# Altium schematic symbol library Isolator.SchLib: 331 symbols (part 2 of 3)
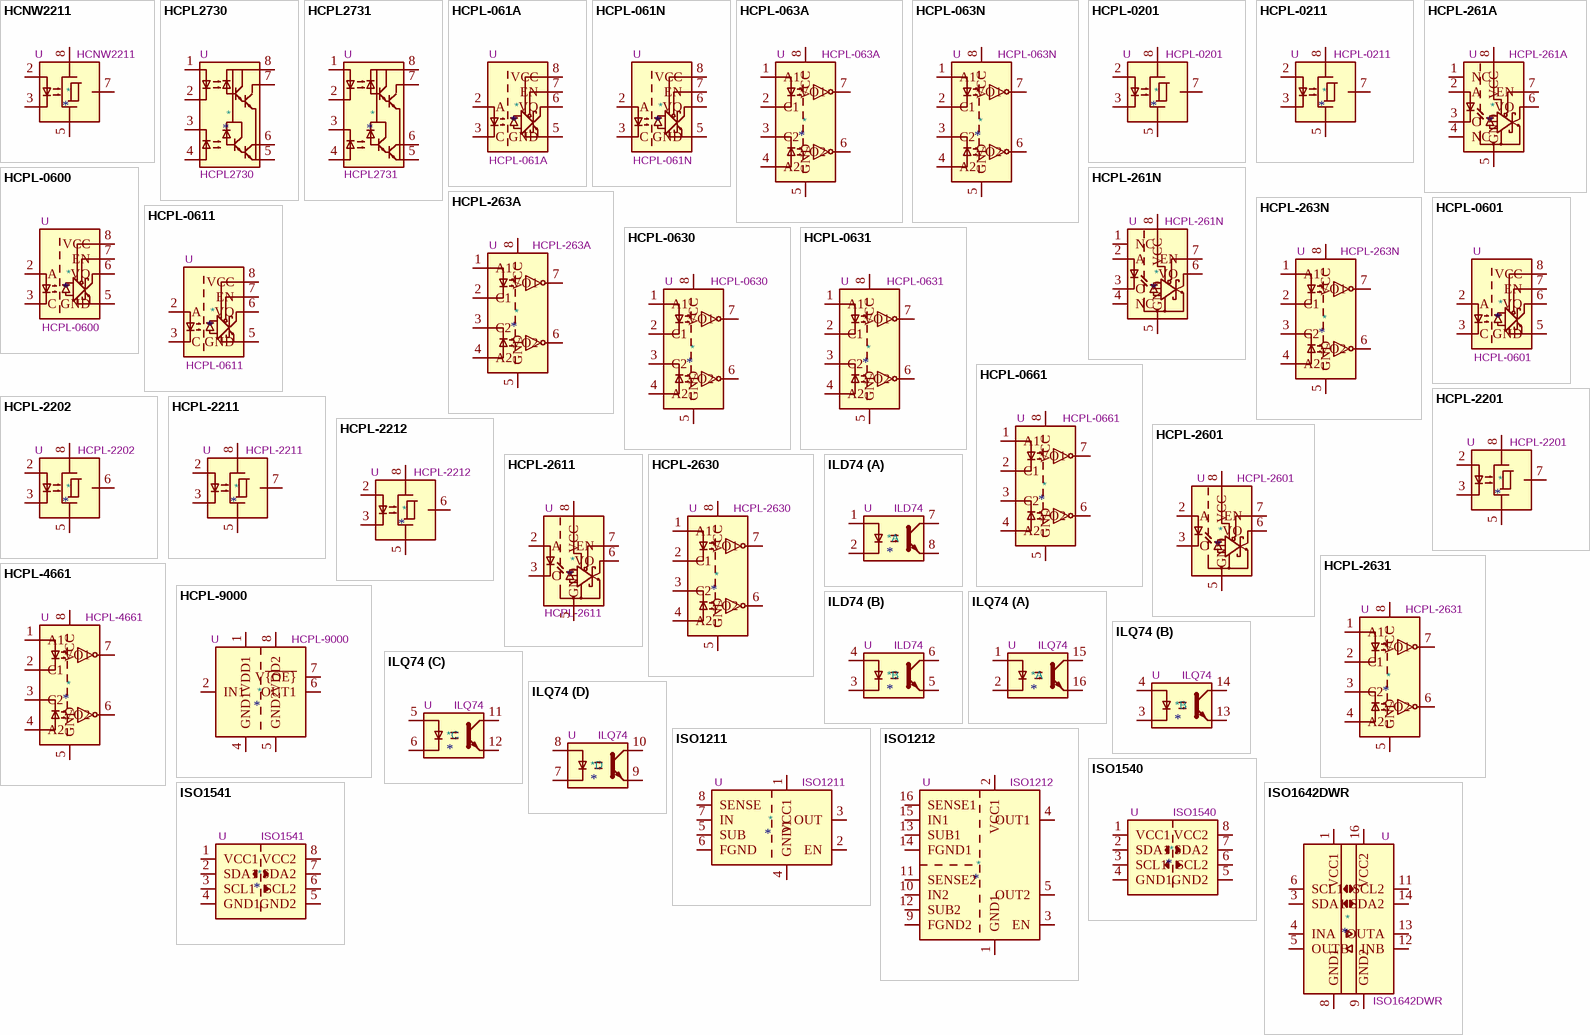
[diagram p10: symbols HCNW2211 to ISO1642DWR]

## ISO1540
designator *  value ISO1540  Reference: U
ki_keywords: digital isolator i2c; ki_description: I2C Isolator, 2.5 kVrms, Bidirectional clock and data, SOIC-8; ki_fp_filters: SOIC*3.9x4.9mm*P1.27mm*; Footprint: Package_SO:SOIC-8_3.9x4.9mm_P1.27mm; Datasheet: http://www.ti.com/lit/ds/symlink/iso1541.pdf
pins: 1 VCC1, 2 SDA1, 3 SCL1, 4 GND1, 5 GND2, 6 SCL2, 7 SDA2, 8 VCC2

## ISO1541
designator *  value ISO1541  Reference: U
ki_keywords: digital isolator i2c; ki_description: I2C Isolator, 2.5 kVrms, Unidirectional Clock, Bidirectional data, SOIC-8; ki_fp_filters: SOIC*3.9x4.9mm*P1.27mm*; Footprint: Package_SO:SOIC-8_3.9x4.9mm_P1.27mm; Datasheet: http://www.ti.com/lit/ds/symlink/iso1541.pdf
pins: 1 VCC1, 2 SDA1, 3 SCL1, 4 GND1, 5 GND2, 6 SCL2, 7 SDA2, 8 VCC2

## ISO1642DWR
designator *  value ISO1642DWR  Reference: U
ki_keywords: i2c isolator additional gpio; ki_description: I2C Isolator with Bidirectional Clock and Data and two 1/1 Auxiliary GPIOs, SOIC-16; ki_fp_filters: SOIC*7.5x10.3mm*P1.27mm*; Footprint: Package_SO:SOIC-16W_7.5x10.3mm_P1.27mm; Datasheet: https://www.ti.com/lit/ds/symlink/iso1642.pdf
pins: 1 VCC1, 2 NC hidden, 3 SDA1, 4 INA, 5 OUTB, 6 SCL1, 7 NC hidden, 8 GND1, 9 GND2, 10 NC hidden, 11 SCL2, 12 INB, 13 OUTA, 14 SDA2, 15 NC hidden, 16 VCC2

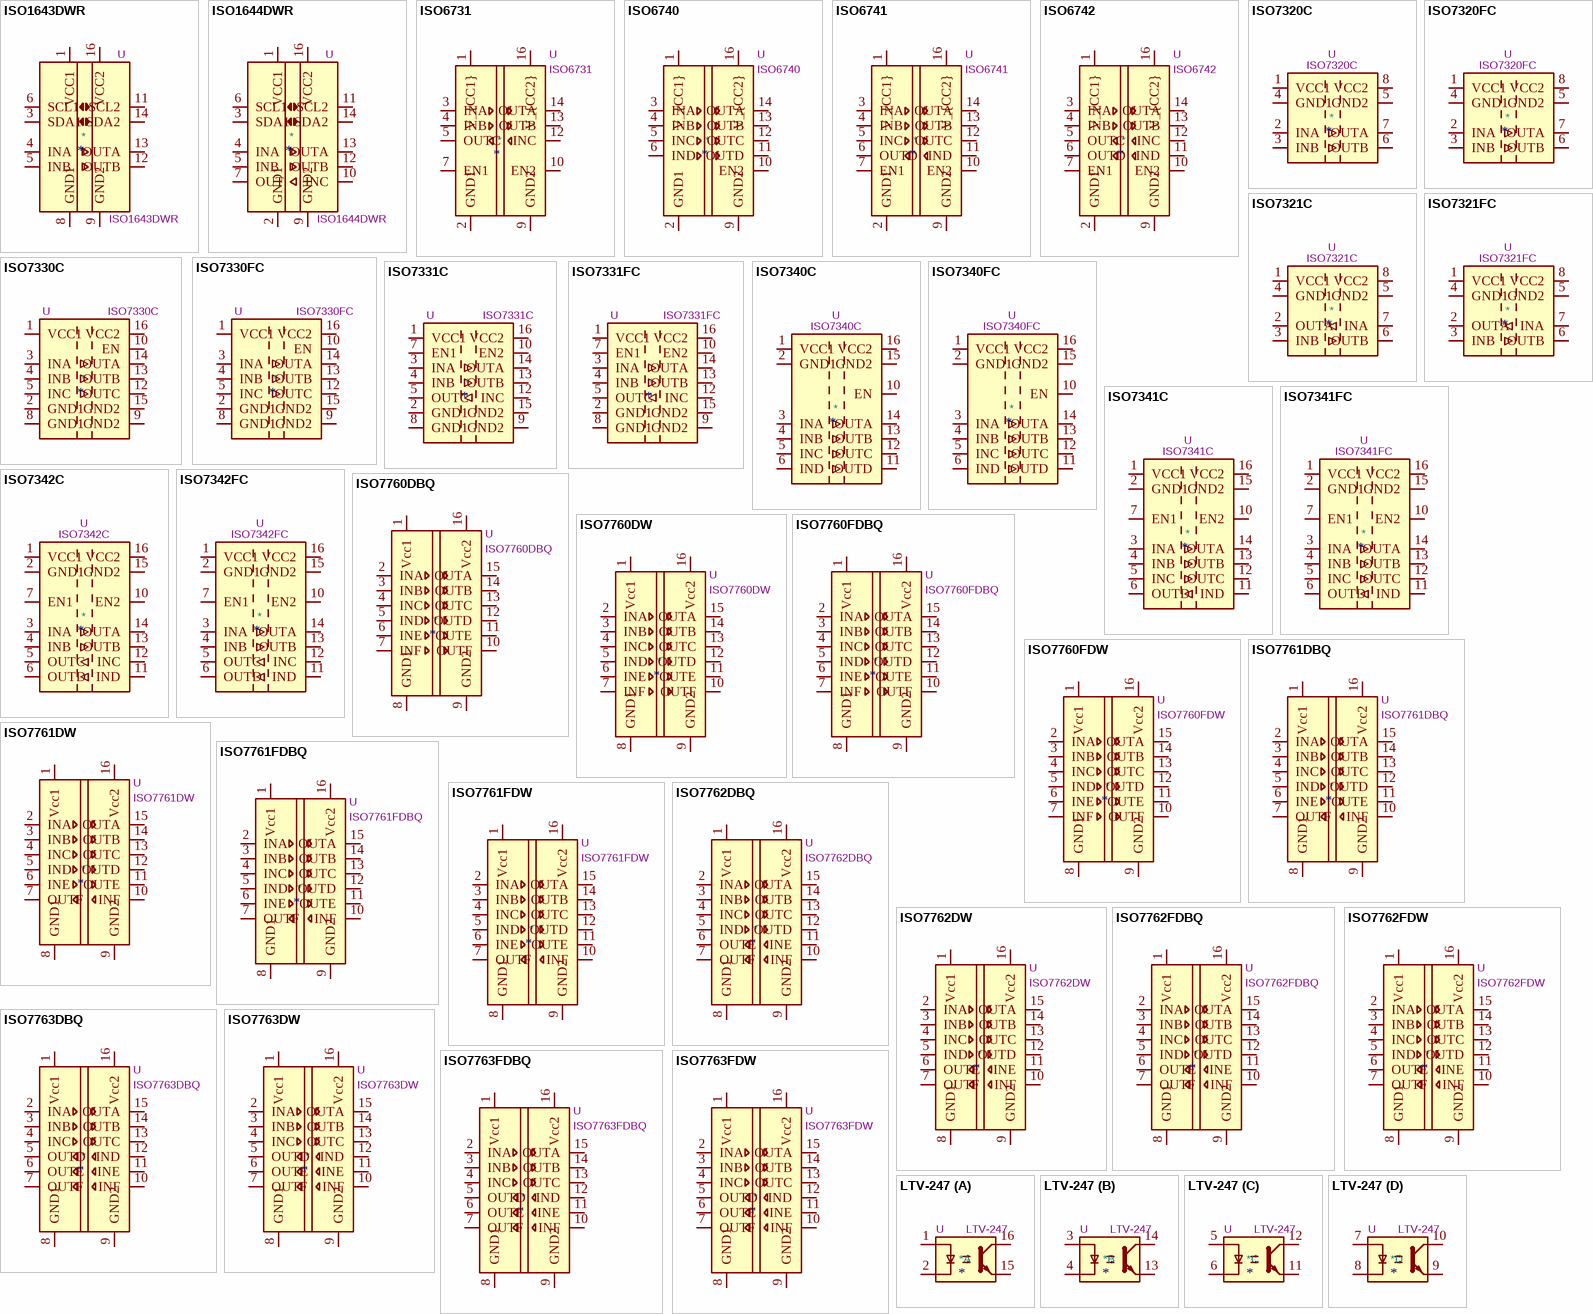
[diagram p3: symbols ISO1643DWR to LTV-247]

## ISO1643DWR
designator *  value ISO1643DWR  Reference: U
ki_keywords: i2c isolator additional gpio; ki_description: I2C Isolator with Bidirectional Clock and Data and two 2/0 Auxiliary GPIOs, SOIC-16; ki_fp_filters: SOIC*7.5x10.3mm*P1.27mm*; Footprint: Package_SO:SOIC-16W_7.5x10.3mm_P1.27mm; Datasheet: https://www.ti.com/lit/ds/symlink/iso1643.pdf
pins: 1 VCC1, 2 NC hidden, 3 SDA1, 4 INA, 5 INB, 6 SCL1, 7 NC hidden, 8 GND1, 9 GND2, 10 NC hidden, 11 SCL2, 12 OUTB, 13 OUTA, 14 SDA2, 15 NC hidden, 16 VCC2

## ISO1644DWR
designator *  value ISO1644DWR  Reference: U
ki_keywords: i2c isolator additional gpio; ki_description: I2C Isolator with Bidirectional Clock and Data and three 2/1 Auxiliary GPIOs, SOIC-16; ki_fp_filters: SOIC*7.5x10.3mm*P1.27mm*; Footprint: Package_SO:SOIC-16W_7.5x10.3mm_P1.27mm; Datasheet: https://www.ti.com/lit/ds/symlink/iso1644.pdf
pins: 1 VCC1, 2 GND1, 3 SDA1, 4 INA, 5 INB, 6 SCL1, 7 OUT, 8 GND1 hidden, 9 GND2, 10 INC, 11 SCL2, 12 OUTB, 13 OUTA, 14 SDA2, 15 GND2 hidden, 16 VCC2

## ISO6731
designator *  value ISO6731  Reference: U
ki_keywords: 3 channel digital isolator; ki_description: General-purpose, triple-channel, 2/1, digital isolator; ki_fp_filters: SOIC*7.5x10.3mm*P1.27mm*; Footprint: Package_SO:SOIC-16W_7.5x10.3mm_P1.27mm; Datasheet: https://www.ti.com/lit/ds/symlink/iso6731.pdf
pins: 1 V_{CC1}, 2 GND1, 3 INA, 4 INB, 5 OUTC, 6 NC hidden, 7 EN1, 8 GND1 hidden, 9 GND2, 10 EN2, 11 NC hidden, 12 INC, 13 OUTB, 14 OUTA, 15 GND2 hidden, 16 V_{CC2}

## ISO6740
designator *  value ISO6740  Reference: U
ki_keywords: 4 channel digital isolator; ki_description: General-purpose, quad-channel, 4/0 digital isolator; ki_fp_filters: SOIC*7.5x10.3mm*P1.27mm*; Footprint: Package_SO:SOIC-16W_7.5x10.3mm_P1.27mm; Datasheet: https://www.ti.com/lit/ds/symlink/iso6740.pdf
pins: 1 V_{CC1}, 2 GND1, 3 INA, 4 INB, 5 INC, 6 IND, 7 NC hidden, 8 GND1 hidden, 9 GND2, 10 EN2, 11 OUTD, 12 OUTC, 13 OUTB, 14 OUTA, 15 GND2 hidden, 16 V_{CC2}

## ISO6741
designator *  value ISO6741  Reference: U
ki_keywords: 4 channel digital isolator; ki_description: General-purpose, quad-channel, 3/1 digital isolator; ki_fp_filters: SOIC*7.5x10.3mm*P1.27mm*; Footprint: Package_SO:SOIC-16W_7.5x10.3mm_P1.27mm; Datasheet: https://www.ti.com/lit/ds/symlink/iso6741.pdf
pins: 1 V_{CC1}, 2 GND1, 3 INA, 4 INB, 5 INC, 6 OUTD, 7 EN1, 8 GND1 hidden, 9 GND2, 10 EN2, 11 IND, 12 OUTC, 13 OUTB, 14 OUTA, 15 GND2 hidden, 16 V_{CC2}

## ISO6742
designator *  value ISO6742  Reference: U
ki_keywords: 4 channel digital isolator; ki_description: General-purpose, quad-channel, 2/2 digital isolator; ki_fp_filters: SOIC*7.5x10.3mm*P1.27mm*; Footprint: Package_SO:SOIC-16W_7.5x10.3mm_P1.27mm; Datasheet: https://www.ti.com/lit/ds/symlink/iso6742.pdf
pins: 1 V_{CC1}, 2 GND1, 3 INA, 4 INB, 5 OUTC, 6 OUTD, 7 EN1, 8 GND1 hidden, 9 GND2, 10 EN2, 11 IND, 12 INC, 13 OUTB, 14 OUTA, 15 GND2 hidden, 16 V_{CC2}

## ISO7320C
designator *  value ISO7320C  Reference: U
ki_keywords: 2Ch Dual Digital Isolator 25Mbps; ki_description: Low Power Dual-Channel 2/0 Digital Isolator, 25Mbps 33ns, Fail-Safe High, SO8; ki_fp_filters: SO*; Footprint: Package_SO:SOIC-8_3.9x4.9mm_P1.27mm; Datasheet: http://www.ti.com/general/docs/lit/getliterature.tsp?genericPartNumber=iso7320c&fileType=pdf
pins: 1 VCC1, 2 INA, 3 INB, 4 GND1, 5 GND2, 6 OUTB, 7 OUTA, 8 VCC2

## ISO7320FC
designator *  value ISO7320FC  Reference: U
ki_keywords: 2Ch Dual Digital Isolator 25Mbps; ki_description: Low Power Dual-Channel 2/0 Digital Isolator, 25Mbps 33ns, Fail-Safe Low, SO8; ki_fp_filters: SO*; Footprint: Package_SO:SOIC-8_3.9x4.9mm_P1.27mm; Datasheet: http://www.ti.com/general/docs/lit/getliterature.tsp?genericPartNumber=iso7320fc&fileType=pdf
pins: 1 VCC1, 2 INA, 3 INB, 4 GND1, 5 GND2, 6 OUTB, 7 OUTA, 8 VCC2

## ISO7321C
designator *  value ISO7321C  Reference: U
ki_keywords: 2Ch Dual Digital Isolator 25Mbps; ki_description: Low Power Dual-Channel 1/1 Digital Isolator, 25Mbps 33ns, Fail-Safe High, SO8; ki_fp_filters: SO*; Footprint: Package_SO:SOIC-8_3.9x4.9mm_P1.27mm; Datasheet: http://www.ti.com/general/docs/lit/getliterature.tsp?genericPartNumber=iso7321c&fileType=pdf
pins: 1 VCC1, 2 OUTA, 3 INB, 4 GND1, 5 GND2, 6 OUTB, 7 INA, 8 VCC2

## ISO7321FC
designator *  value ISO7321FC  Reference: U
ki_keywords: 2Ch Dual Digital Isolator 25Mbps; ki_description: Low Power Dual-Channel 1/1 Digital Isolator, 25Mbps 33ns, Fail-Safe Low, SO8; ki_fp_filters: SO*; Footprint: Package_SO:SOIC-8_3.9x4.9mm_P1.27mm; Datasheet: http://www.ti.com/general/docs/lit/getliterature.tsp?genericPartNumber=iso7321fc&fileType=pdf
pins: 1 VCC1, 2 OUTA, 3 INB, 4 GND1, 5 GND2, 6 OUTB, 7 INA, 8 VCC2

## ISO7330C
designator *  value ISO7330C  Reference: U
ki_keywords: 3Ch Quad Digital Isolator 25Mbps; ki_description: Low Power Quad-Channel 3/0 Digital Isolator, 25Mbps 31ns, Fail-Safe High, SO16; ki_fp_filters: SOIC*7.5x10.3mm*P1.27mm*; Footprint: Package_SO:SOIC-16W_7.5x10.3mm_P1.27mm; Datasheet: http://www.ti.com/lit/ds/symlink/iso7330-q1.pdf
pins: 1 VCC1, 2 GND1, 3 INA, 4 INB, 5 INC, 6 NC hidden, 7 NC hidden, 8 GND1, 9 GND2, 10 EN, 11 NC hidden, 12 OUTC, 13 OUTB, 14 OUTA, 15 GND2, 16 VCC2

## ISO7330FC
designator *  value ISO7330FC  Reference: U
ki_keywords: 3Ch Quad Digital Isolator 25Mbps; ki_description: Low Power Quad-Channel 3/0 Digital Isolator, 25Mbps 31ns, Fail-Safe Low, SO16; ki_fp_filters: SOIC*7.5x10.3mm*P1.27mm*; Footprint: Package_SO:SOIC-16W_7.5x10.3mm_P1.27mm; Datasheet: http://www.ti.com/lit/ds/symlink/iso7330-q1.pdf
pins: 1 VCC1, 2 GND1, 3 INA, 4 INB, 5 INC, 6 NC hidden, 7 NC hidden, 8 GND1, 9 GND2, 10 EN, 11 NC hidden, 12 OUTC, 13 OUTB, 14 OUTA, 15 GND2, 16 VCC2

## ISO7331C
designator *  value ISO7331C  Reference: U
ki_keywords: 3Ch Quad Digital Isolator 25Mbps; ki_description: Low Power Quad-Channel 2/1 Digital Isolator, 25Mbps 31ns, Fail-Safe High, SO16; ki_fp_filters: SOIC*7.5x10.3mm*P1.27mm*; Footprint: Package_SO:SOIC-16W_7.5x10.3mm_P1.27mm; Datasheet: http://www.ti.com/lit/ds/symlink/iso7331c.pdf
pins: 1 VCC1, 2 GND1, 3 INA, 4 INB, 5 OUTC, 6 NC hidden, 7 EN1, 8 GND1, 9 GND2, 10 EN2, 11 NC hidden, 12 INC, 13 OUTB, 14 OUTA, 15 GND2, 16 VCC2

## ISO7331FC
designator *  value ISO7331FC  Reference: U
ki_keywords: 3Ch Quad Digital Isolator 25Mbps; ki_description: Low Power Quad-Channel 2/1 Digital Isolator, 25Mbps 31ns, Fail-Safe Low, SO16; ki_fp_filters: SOIC*7.5x10.3mm*P1.27mm*; Footprint: Package_SO:SOIC-16W_7.5x10.3mm_P1.27mm; Datasheet: http://www.ti.com/general/docs/lit/getliterature.tsp?genericPartNumber=iso7341c&fileType=pdf
pins: 1 VCC1, 2 GND1, 3 INA, 4 INB, 5 OUTC, 6 NC hidden, 7 EN1, 8 GND1, 9 GND2, 10 EN2, 11 NC hidden, 12 INC, 13 OUTB, 14 OUTA, 15 GND2, 16 VCC2

## ISO7340C
designator *  value ISO7340C  Reference: U
ki_keywords: 4Ch Quad Digital Isolator 25Mbps; ki_description: Low Power Quad-Channel 4/0 Digital Isolator, 25Mbps 31ns, Fail-Safe High, SO16; ki_fp_filters: SO*; Footprint: Package_SO:SOIC-16W_7.5x10.3mm_P1.27mm; Datasheet: http://www.ti.com/general/docs/lit/getliterature.tsp?genericPartNumber=iso7340c&fileType=pdf
pins: 1 VCC1, 2 GND1, 3 INA, 4 INB, 5 INC, 6 IND, 8 GND1 hidden, 9 GND2 hidden, 10 EN, 11 OUTD, 12 OUTC, 13 OUTB, 14 OUTA, 15 GND2, 16 VCC2

## ISO7340FC
designator *  value ISO7340FC  Reference: U
ki_keywords: 4Ch Quad Digital Isolator 25Mbps; ki_description: Low Power Quad-Channel 4/0 Digital Isolator, 25Mbps 31ns, Fail-Safe Low, SO16; ki_fp_filters: SO*; Footprint: Package_SO:SOIC-16W_7.5x10.3mm_P1.27mm; Datasheet: http://www.ti.com/general/docs/lit/getliterature.tsp?genericPartNumber=iso7340fc&fileType=pdf
pins: 1 VCC1, 2 GND1, 3 INA, 4 INB, 5 INC, 6 IND, 8 GND1 hidden, 9 GND2 hidden, 10 EN, 11 OUTD, 12 OUTC, 13 OUTB, 14 OUTA, 15 GND2, 16 VCC2

## ISO7341C
designator *  value ISO7341C  Reference: U
ki_keywords: 4Ch Quad Digital Isolator 25Mbps; ki_description: Low Power Quad-Channel 3/1 Digital Isolator, 25Mbps 31ns, Fail-Safe High, SO16; ki_fp_filters: SO*; Footprint: Package_SO:SOIC-16W_7.5x10.3mm_P1.27mm; Datasheet: http://www.ti.com/general/docs/lit/getliterature.tsp?genericPartNumber=iso7341c&fileType=pdf
pins: 1 VCC1, 2 GND1, 3 INA, 4 INB, 5 INC, 6 OUTD, 7 EN1, 8 GND1 hidden, 9 GND2 hidden, 10 EN2, 11 IND, 12 OUTC, 13 OUTB, 14 OUTA, 15 GND2, 16 VCC2

## ISO7341FC
designator *  value ISO7341FC  Reference: U
ki_keywords: 4Ch Quad Digital Isolator 25Mbps; ki_description: Low Power Quad-Channel 3/1 Digital Isolator, 25Mbps 31ns, Fail-Safe Low, SO16; ki_fp_filters: SO*; Footprint: Package_SO:SOIC-16W_7.5x10.3mm_P1.27mm; Datasheet: http://www.ti.com/general/docs/lit/getliterature.tsp?genericPartNumber=iso7341fc&fileType=pdf
pins: 1 VCC1, 2 GND1, 3 INA, 4 INB, 5 INC, 6 OUTD, 7 EN1, 8 GND1 hidden, 9 GND2 hidden, 10 EN2, 11 IND, 12 OUTC, 13 OUTB, 14 OUTA, 15 GND2, 16 VCC2

## ISO7342C
designator *  value ISO7342C  Reference: U
ki_keywords: 4Ch Quad Digital Isolator 25Mbps; ki_description: Low Power Quad-Channel 2/2 Digital Isolator, 25Mbps 31ns, Fail-Safe High, SO16; ki_fp_filters: SO*; Footprint: Package_SO:SOIC-16W_7.5x10.3mm_P1.27mm; Datasheet: http://www.ti.com/general/docs/lit/getliterature.tsp?genericPartNumber=iso7342c&fileType=pdf
pins: 1 VCC1, 2 GND1, 3 INA, 4 INB, 5 OUTC, 6 OUTD, 7 EN1, 8 GND1 hidden, 9 GND2 hidden, 10 EN2, 11 IND, 12 INC, 13 OUTB, 14 OUTA, 15 GND2, 16 VCC2

## ISO7342FC
designator *  value ISO7342FC  Reference: U
ki_keywords: 4Ch Quad Digital Isolator 25Mbps; ki_description: Low Power Quad-Channel 2/2 Digital Isolator, 25Mbps 31ns, Fail-Safe Low, SO16; ki_fp_filters: SO*; Footprint: Package_SO:SOIC-16W_7.5x10.3mm_P1.27mm; Datasheet: http://www.ti.com/general/docs/lit/getliterature.tsp?genericPartNumber=iso7342fc&fileType=pdf
pins: 1 VCC1, 2 GND1, 3 INA, 4 INB, 5 OUTC, 6 OUTD, 7 EN1, 8 GND1 hidden, 9 GND2 hidden, 10 EN2, 11 IND, 12 INC, 13 OUTB, 14 OUTA, 15 GND2, 16 VCC2

## ISO7760DBQ
designator *  value ISO7760DBQ  Reference: U
ki_keywords: 6 channel digital isolator; ki_description: Default high, High-speed, robust EMC, reinforced, six-channel, digital, isolator, SSOP-16; ki_fp_filters: SSOP*3.9x4.9mm*P0.635mm*; Footprint: Package_SO:SSOP-16_3.9x4.9mm_P0.635mm; Datasheet: https://www.ti.com/lit/ds/symlink/iso7763.pdf
pins: 1 Vcc1, 2 INA, 3 INB, 4 INC, 5 IND, 6 INE, 7 INF, 8 GND1, 9 GND2, 10 OUTF, 11 OUTE, 12 OUTD, 13 OUTC, 14 OUTB, 15 OUTA, 16 Vcc2

## ISO7760DW
designator *  value ISO7760DW  Reference: U
ki_keywords: 6 channel digital isolator; ki_description: Default high, High-speed, robust EMC, reinforced, six-channel, digital, isolator, SOIC-16; ki_fp_filters: SOIC*7.5x10.3mm*P1.27mm*; Footprint: Package_SO:SOIC-16W_7.5x10.3mm_P1.27mm; Datasheet: https://www.ti.com/lit/ds/symlink/iso7763.pdf
pins: 1 Vcc1, 2 INA, 3 INB, 4 INC, 5 IND, 6 INE, 7 INF, 8 GND1, 9 GND2, 10 OUTF, 11 OUTE, 12 OUTD, 13 OUTC, 14 OUTB, 15 OUTA, 16 Vcc2

## ISO7760FDBQ
designator *  value ISO7760FDBQ  Reference: U
ki_keywords: 6 channel digital isolator; ki_description: Default low, High-speed, robust EMC, reinforced, six-channel, digital, isolator, SSOP-16; ki_fp_filters: SSOP*3.9x4.9mm*P0.635mm*; Footprint: Package_SO:SSOP-16_3.9x4.9mm_P0.635mm; Datasheet: https://www.ti.com/lit/ds/symlink/iso7763.pdf?ts=1596905577895
pins: 1 Vcc1, 2 INA, 3 INB, 4 INC, 5 IND, 6 INE, 7 INF, 8 GND1, 9 GND2, 10 OUTF, 11 OUTE, 12 OUTD, 13 OUTC, 14 OUTB, 15 OUTA, 16 Vcc2

## ISO7760FDW
designator *  value ISO7760FDW  Reference: U
ki_keywords: 6 channel digital isolator; ki_description: Default low, High-speed, robust EMC, reinforced, six-channel, digital, isolator, SOIC-16; ki_fp_filters: SOIC*7.5x10.3mm*P1.27mm*; Footprint: Package_SO:SOIC-16W_7.5x10.3mm_P1.27mm; Datasheet: https://www.ti.com/lit/ds/symlink/iso7763.pdf?ts=1596905577895
pins: 1 Vcc1, 2 INA, 3 INB, 4 INC, 5 IND, 6 INE, 7 INF, 8 GND1, 9 GND2, 10 OUTF, 11 OUTE, 12 OUTD, 13 OUTC, 14 OUTB, 15 OUTA, 16 Vcc2

## ISO7761DBQ
designator *  value ISO7761DBQ  Reference: U
ki_keywords: 6 channel digital isolator; ki_description: Default high, High-speed, robust EMC, reinforced, six-channel, digital, isolator, SSOP-16; ki_fp_filters: SSOP*3.9x4.9mm*P0.635mm*; Footprint: Package_SO:SSOP-16_3.9x4.9mm_P0.635mm; Datasheet: https://www.ti.com/lit/ds/symlink/iso7763.pdf
pins: 1 Vcc1, 2 INA, 3 INB, 4 INC, 5 IND, 6 INE, 7 OUTF, 8 GND1, 9 GND2, 10 INF, 11 OUTE, 12 OUTD, 13 OUTC, 14 OUTB, 15 OUTA, 16 Vcc2

## ISO7761DW
designator *  value ISO7761DW  Reference: U
ki_keywords: 6 channel digital isolator; ki_description: Default high, High-speed, robust EMC, reinforced, six-channel, digital, isolator, SOIC-16; ki_fp_filters: SOIC*7.5x10.3mm*P1.27mm*; Footprint: Package_SO:SOIC-16W_7.5x10.3mm_P1.27mm; Datasheet: https://www.ti.com/lit/ds/symlink/iso7763.pdf
pins: 1 Vcc1, 2 INA, 3 INB, 4 INC, 5 IND, 6 INE, 7 OUTF, 8 GND1, 9 GND2, 10 INF, 11 OUTE, 12 OUTD, 13 OUTC, 14 OUTB, 15 OUTA, 16 Vcc2

## ISO7761FDBQ
designator *  value ISO7761FDBQ  Reference: U
ki_keywords: 6 channel digital isolator; ki_description: Default low, High-speed, robust EMC, reinforced, six-channel, digital, isolator, SSOP-16; ki_fp_filters: SSOP*3.9x4.9mm*P0.635mm*; Footprint: Package_SO:SSOP-16_3.9x4.9mm_P0.635mm; Datasheet: https://www.ti.com/lit/ds/symlink/iso7763.pdf?ts=1596905577895
pins: 1 Vcc1, 2 INA, 3 INB, 4 INC, 5 IND, 6 INE, 7 OUTF, 8 GND1, 9 GND2, 10 INF, 11 OUTE, 12 OUTD, 13 OUTC, 14 OUTB, 15 OUTA, 16 Vcc2

## ISO7761FDW
designator *  value ISO7761FDW  Reference: U
ki_keywords: 6 channel digital isolator; ki_description: Default low, High-speed, robust EMC, reinforced, six-channel, digital, isolator, SOIC-16; ki_fp_filters: SOIC*7.5x10.3mm*P1.27mm*; Footprint: Package_SO:SOIC-16W_7.5x10.3mm_P1.27mm; Datasheet: https://www.ti.com/lit/ds/symlink/iso7763.pdf?ts=1596905577895
pins: 1 Vcc1, 2 INA, 3 INB, 4 INC, 5 IND, 6 INE, 7 OUTF, 8 GND1, 9 GND2, 10 INF, 11 OUTE, 12 OUTD, 13 OUTC, 14 OUTB, 15 OUTA, 16 Vcc2

## ISO7762DBQ
designator *  value ISO7762DBQ  Reference: U
ki_keywords: 6 channel digital isolator; ki_description: Default high, High-speed, robust EMC, reinforced, six-channel, digital, isolator, SSOP-16; ki_fp_filters: SSOP*3.9x4.9mm*P0.635mm*; Footprint: Package_SO:SSOP-16_3.9x4.9mm_P0.635mm; Datasheet: https://www.ti.com/lit/ds/symlink/iso7763.pdf
pins: 1 Vcc1, 2 INA, 3 INB, 4 INC, 5 IND, 6 OUTE, 7 OUTF, 8 GND1, 9 GND2, 10 INF, 11 INE, 12 OUTD, 13 OUTC, 14 OUTB, 15 OUTA, 16 Vcc2

## ISO7762DW
designator *  value ISO7762DW  Reference: U
ki_keywords: 6 channel digital isolator; ki_description: Default high, High-speed, robust EMC, reinforced, six-channel, digital, isolator, SOIC-16; ki_fp_filters: SOIC*7.5x10.3mm*P1.27mm*; Footprint: Package_SO:SOIC-16W_7.5x10.3mm_P1.27mm; Datasheet: https://www.ti.com/lit/ds/symlink/iso7763.pdf
pins: 1 Vcc1, 2 INA, 3 INB, 4 INC, 5 IND, 6 OUTE, 7 OUTF, 8 GND1, 9 GND2, 10 INF, 11 INE, 12 OUTD, 13 OUTC, 14 OUTB, 15 OUTA, 16 Vcc2

## ISO7762FDBQ
designator *  value ISO7762FDBQ  Reference: U
ki_keywords: 6 channel digital isolator; ki_description: Default low, High-speed, robust EMC, reinforced, six-channel, digital, isolator, SSOP-16; ki_fp_filters: SSOP*3.9x4.9mm*P0.635mm*; Footprint: Package_SO:SSOP-16_3.9x4.9mm_P0.635mm; Datasheet: https://www.ti.com/lit/ds/symlink/iso7763.pdf?ts=1596905577895
pins: 1 Vcc1, 2 INA, 3 INB, 4 INC, 5 IND, 6 OUTE, 7 OUTF, 8 GND1, 9 GND2, 10 INF, 11 INE, 12 OUTD, 13 OUTC, 14 OUTB, 15 OUTA, 16 Vcc2

## ISO7762FDW
designator *  value ISO7762FDW  Reference: U
ki_keywords: 6 channel digital isolator; ki_description: Default low, High-speed, robust EMC, reinforced, six-channel, digital, isolator, SOIC-16; ki_fp_filters: SOIC*7.5x10.3mm*P1.27mm*; Footprint: Package_SO:SOIC-16W_7.5x10.3mm_P1.27mm; Datasheet: https://www.ti.com/lit/ds/symlink/iso7763.pdf?ts=1596905577895
pins: 1 Vcc1, 2 INA, 3 INB, 4 INC, 5 IND, 6 OUTE, 7 OUTF, 8 GND1, 9 GND2, 10 INF, 11 INE, 12 OUTD, 13 OUTC, 14 OUTB, 15 OUTA, 16 Vcc2

## ISO7763DBQ
designator *  value ISO7763DBQ  Reference: U
ki_keywords: 6 channel digital isolator; ki_description: Default high, High-speed, robust EMC, reinforced, six-channel, digital, isolator, SSOP-16; ki_fp_filters: SSOP*3.9x4.9mm*P0.635mm*; Footprint: Package_SO:SSOP-16_3.9x4.9mm_P0.635mm; Datasheet: https://www.ti.com/lit/ds/symlink/iso7763.pdf
pins: 1 Vcc1, 2 INA, 3 INB, 4 INC, 5 OUTD, 6 OUTE, 7 OUTF, 8 GND1, 9 GND2, 10 INF, 11 INE, 12 IND, 13 OUTC, 14 OUTB, 15 OUTA, 16 Vcc2

## ISO7763DW
designator *  value ISO7763DW  Reference: U
ki_keywords: 6 channel digital isolator; ki_description: Default high, High-speed, robust EMC, reinforced, six-channel, digital, isolator, SOIC-16; ki_fp_filters: SOIC*7.5x10.3mm*P1.27mm*; Footprint: Package_SO:SOIC-16W_7.5x10.3mm_P1.27mm; Datasheet: https://www.ti.com/lit/ds/symlink/iso7763.pdf
pins: 1 Vcc1, 2 INA, 3 INB, 4 INC, 5 OUTD, 6 OUTE, 7 OUTF, 8 GND1, 9 GND2, 10 INF, 11 INE, 12 IND, 13 OUTC, 14 OUTB, 15 OUTA, 16 Vcc2

## ISO7763FDBQ
designator *  value ISO7763FDBQ  Reference: U
ki_keywords: 6 channel digital isolator; ki_description: Default low, High-speed, robust EMC, reinforced, six-channel, digital, isolator, SSOP-16; ki_fp_filters: SSOP*3.9x4.9mm*P0.635mm*; Footprint: Package_SO:SSOP-16_3.9x4.9mm_P0.635mm; Datasheet: https://www.ti.com/lit/ds/symlink/iso7763.pdf?ts=1596905577895
pins: 1 Vcc1, 2 INA, 3 INB, 4 INC, 5 OUTD, 6 OUTE, 7 OUTF, 8 GND1, 9 GND2, 10 INF, 11 INE, 12 IND, 13 OUTC, 14 OUTB, 15 OUTA, 16 Vcc2

## ISO7763FDW
designator *  value ISO7763FDW  Reference: U
ki_keywords: 6 channel digital isolator; ki_description: Default low, High-speed, robust EMC, reinforced, six-channel, digital, isolator, SOIC-16; ki_fp_filters: SOIC*7.5x10.3mm*P1.27mm*; Footprint: Package_SO:SOIC-16W_7.5x10.3mm_P1.27mm; Datasheet: https://www.ti.com/lit/ds/symlink/iso7763.pdf?ts=1596905577895
pins: 1 Vcc1, 2 INA, 3 INB, 4 INC, 5 OUTD, 6 OUTE, 7 OUTF, 8 GND1, 9 GND2, 10 INF, 11 INE, 12 IND, 13 OUTC, 14 OUTB, 15 OUTA, 16 Vcc2

## LTV-247
designator *  value LTV-247  Reference: U
ki_keywords: NPN DC Quad Optocoupler; ki_description: DC Quad Optocoupler, Vce 80V, CTR 100-600%, SOP-16; ki_fp_filters: SOP*4.4x10.4mm*P1.27mm*; Footprint: Package_SO:SOP-16_4.4x10.4mm_P1.27mm; Datasheet: http://optoelectronics.liteon.com/upload/download/DS70-2009-0014/LTV-2X7%20sereis%20Mar17.PDF
part A pins: 1, 2, 15, 16
part B pins: 3, 4, 13, 14
part C pins: 5, 6, 11, 12
part D pins: 7, 8, 9, 10

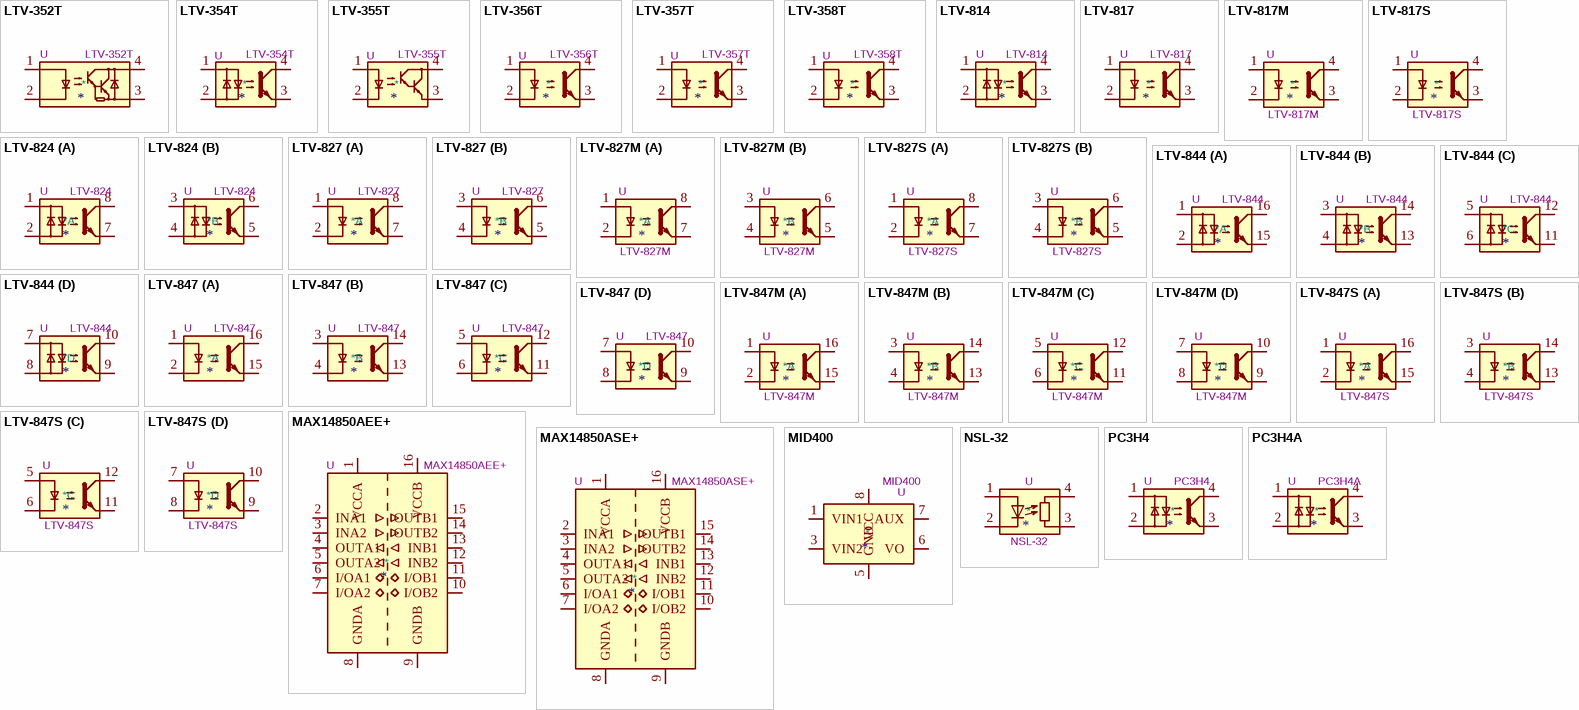
[diagram p4: symbols LTV-352T to PC3H4A]

## LTV-352T
designator *  value LTV-352T  Reference: U
ki_keywords: NPN Darlington DC Optocoupler; ki_description: DC Darlington Optocoupler, Vce 300V, CTR 1000%, SO-4; ki_fp_filters: SO*4.4x3.6mm*P2.54mm*; Footprint: Package_SO:SO-4_4.4x3.6mm_P2.54mm; Datasheet: http://optoelectronics.liteon.com/upload/download/DS70-2001-002/S_110_LTV-352T%2020140520.pdf
pins: 1, 2, 3, 4

## LTV-354T
designator *  value LTV-354T  Reference: U
ki_keywords: NPN AC DC Optocoupler; ki_description: AC/DC Optocoupler, Vce 35V, CTR 20%, SO-4; ki_fp_filters: SO*4.4x3.6mm*P2.54mm*; Footprint: Package_SO:SO-4_4.4x3.6mm_P2.54mm; Datasheet: http://optoelectronics.liteon.com/upload/download/DS70-2001-004/S_110_LTV-354T%2020140520.pdf
pins: 1, 2, 3, 4

## LTV-355T
designator *  value LTV-355T  Reference: U
ki_keywords: NPN Darlington DC Optocoupler; ki_description: DC Darlington Optocoupler, Vce 35V, CTR 600%, SO-4; ki_fp_filters: SO*4.4x3.6mm*P2.54mm*; Footprint: Package_SO:SO-4_4.4x3.6mm_P2.54mm; Datasheet: http://optoelectronics.liteon.com/upload/download/DS70-2001-006/S_110_LTV-355T%2020140520.pdf
pins: 1, 2, 3, 4

## LTV-356T
designator *  value LTV-356T  Reference: U
ki_keywords: NPN DC Optocoupler; ki_description: DC Optocoupler, Vce 80V, CTR 50%, SO-4; ki_fp_filters: SO*4.4x3.6mm*P2.54mm*; Footprint: Package_SO:SO-4_4.4x3.6mm_P2.54mm; Datasheet: http://optoelectronics.liteon.com/upload/download/DS70-2001-010/S_110_LTV-356T%2020140520.pdf
pins: 1, 2, 3, 4

## LTV-357T
designator *  value LTV-357T  Reference: U
ki_keywords: NPN DC Optocoupler; ki_description: DC Optocoupler, Vce 35V, CTR 50%, SO-4; ki_fp_filters: SO*4.4x3.6mm*P2.54mm*; Footprint: Package_SO:SO-4_4.4x3.6mm_P2.54mm; Datasheet: https://www.buerklin.com/medias/sys_master/download/download/h91/ha0/8892020588574.pdf
pins: 1, 2, 3, 4

## LTV-358T
designator *  value LTV-358T  Reference: U
ki_keywords: NPN DC Optocoupler; ki_description: DC Optocoupler, Vce 120V, CTR 50%, SO-4; ki_fp_filters: SO*4.4x3.6mm*P2.54mm*; Footprint: Package_SO:SO-4_4.4x3.6mm_P2.54mm; Datasheet: http://optoelectronics.liteon.com/upload/download/DS70-2001-022/S_110_LTV-358T%2020140520.pdf
pins: 1, 2, 3, 4

## LTV-814
designator *  value LTV-814  Reference: U
ki_keywords: NPN AC DC Optocoupler; ki_description: AC/DC Optocoupler, Vce 35V, CTR 20%, DIP4; ki_fp_filters: DIP*W7.62mm*; Footprint: Package_DIP:DIP-4_W7.62mm; Datasheet: https://optoelectronics.liteon.com/upload/download/DS-70-96-0013/LTV-8X4%20series%20201509.pdf
pins: 1, 2, 3, 4

## LTV-817
designator *  value LTV-817  Reference: U
ki_keywords: NPN DC Optocoupler; ki_description: DC Optocoupler, Vce 35V, CTR 50%, DIP-4; ki_fp_filters: DIP*W7.62mm*; Footprint: Package_DIP:DIP-4_W7.62mm; Datasheet: http://www.us.liteon.com/downloads/LTV-817-827-847.PDF
pins: 1, 2, 3, 4

## LTV-817M
designator *  value LTV-817M  Reference: U
ki_keywords: NPN DC Optocoupler; ki_description: DC Optocoupler, Vce 35V, CTR 50%, DIP-4; ki_fp_filters: DIP*W10.16mm*; Footprint: Package_DIP:DIP-4_W10.16mm; Datasheet: http://www.us.liteon.com/downloads/LTV-817-827-847.PDF
pins: 1, 2, 3, 4

## LTV-817S
designator *  value LTV-817S  Reference: U
ki_keywords: NPN DC Optocoupler; ki_description: DC Optocoupler, Vce 35V, CTR 50%, SMDIP-4; ki_fp_filters: SMDIP*W9.53mm*; Footprint: Package_DIP:SMDIP-4_W9.53mm; Datasheet: http://www.us.liteon.com/downloads/LTV-817-827-847.PDF
pins: 1, 2, 3, 4

## LTV-824
designator *  value LTV-824  Reference: U
ki_keywords: Dual NPN AC DC Optocoupler; ki_description: Dual AC/DC Optocoupler, Vce 35V, CTR 20%, DIP8; ki_fp_filters: DIP*W7.62mm*; Footprint: Package_DIP:DIP-8_W7.62mm; Datasheet: http://optoelectronics.liteon.com/upload/download/DS-70-96-0013/S_110_LTV-814%20824%20844%20(M,%20S,%20S-TA,%20S-TA1,%20S-TP)%20Series.pdf
part A pins: 1, 2, 7, 8
part B pins: 3, 4, 5, 6

## LTV-827
designator *  value LTV-827  Reference: U
ki_keywords: NPN DC Dual Optocoupler; ki_description: Dual DC Optocoupler, Vce 35V, CTR 50%, DIP-8; ki_fp_filters: DIP*W7.62mm*; Footprint: Package_DIP:DIP-8_W7.62mm; Datasheet: http://optoelectronics.liteon.com/upload/download/DS-70-96-0016/LTV-8X7%20series%20201610%20.pdf
part A pins: 1, 2, 7, 8
part B pins: 3, 4, 5, 6

## LTV-827M
designator *  value LTV-827M  Reference: U
ki_keywords: NPN DC Optocoupler; ki_description: DC Optocoupler, Vce 35V, CTR 50%, DIP-8; ki_fp_filters: DIP*W10.16mm*; Footprint: Package_DIP:DIP-8_W10.16mm; Datasheet: http://www.us.liteon.com/downloads/LTV-817-827-847.PDF
part A pins: 1, 2, 7, 8
part B pins: 3, 4, 5, 6

## LTV-827S
designator *  value LTV-827S  Reference: U
ki_keywords: NPN DC Optocoupler; ki_description: DC Optocoupler, Vce 35V, CTR 50%, SMDIP-8; ki_fp_filters: SMDIP*W9.53mm*; Footprint: Package_DIP:SMDIP-8_W9.53mm; Datasheet: http://www.us.liteon.com/downloads/LTV-817-827-847.PDF
part A pins: 1, 2, 7, 8
part B pins: 3, 4, 5, 6

## LTV-844
designator *  value LTV-844  Reference: U
ki_keywords: Quad NPN AC DC Optocoupler; ki_description: Quad AC/DC Optocoupler, Vce 35V, CTR 20%, DIP16; ki_fp_filters: DIP*W7.62mm*; Footprint: Package_DIP:DIP-16_W7.62mm; Datasheet: http://optoelectronics.liteon.com/upload/download/DS-70-96-0013/S_110_LTV-814%20824%20844%20(M,%20S,%20S-TA,%20S-TA1,%20S-TP)%20Series.pdf
part A pins: 1, 2, 15, 16
part B pins: 3, 4, 13, 14
part C pins: 5, 6, 11, 12
part D pins: 7, 8, 9, 10

## LTV-847
designator *  value LTV-847  Reference: U
ki_keywords: NPN DC Quad Optocoupler; ki_description: Quad DC Optocoupler, Vce 35V, CTR 50%, DIP-16; ki_fp_filters: DIP*W7.62mm*; Footprint: Package_DIP:DIP-16_W7.62mm; Datasheet: http://optoelectronics.liteon.com/upload/download/DS-70-96-0016/LTV-8X7%20series.PDF
part A pins: 1, 2, 15, 16
part B pins: 3, 4, 13, 14
part C pins: 5, 6, 11, 12
part D pins: 7, 8, 9, 10

## LTV-847M
designator *  value LTV-847M  Reference: U
ki_keywords: NPN DC Optocoupler; ki_description: DC Optocoupler, Vce 35V, CTR 50%, DIP-16; ki_fp_filters: DIP*W10.16mm*; Footprint: Package_DIP:DIP-16_W10.16mm; Datasheet: http://www.us.liteon.com/downloads/LTV-817-827-847.PDF
part A pins: 1, 2, 15, 16
part B pins: 3, 4, 13, 14
part C pins: 5, 6, 11, 12
part D pins: 7, 8, 9, 10

## LTV-847S
designator *  value LTV-847S  Reference: U
ki_keywords: NPN DC Optocoupler; ki_description: DC Optocoupler, Vce 35V, CTR 50%, SMDIP-16; ki_fp_filters: SMDIP*W9.53mm*; Footprint: Package_DIP:SMDIP-16_W9.53mm; Datasheet: http://www.us.liteon.com/downloads/LTV-817-827-847.PDF
part A pins: 1, 2, 15, 16
part B pins: 3, 4, 13, 14
part C pins: 5, 6, 11, 12
part D pins: 7, 8, 9, 10

## MAX14850AEE+
designator *  value MAX14850AEE+  Reference: U
ki_keywords: 6 channel digital isolator bidirectional; ki_description: Six-channel digital isolator, bidirectional, 3V3, 5V, QSOP-16; ki_fp_filters: QSOP*3.9x4.9mm*P0.635mm*; Footprint: Package_SO:QSOP-16_3.9x4.9mm_P0.635mm; Datasheet: https://datasheets.maximintegrated.com/en/ds/MAX14850.pdf
pins: 1 VCCA, 2 INA1, 3 INA2, 4 OUTA1, 5 OUTA2, 6 I/OA1, 7 I/OA2, 8 GNDA, 9 GNDB, 10 I/OB2, 11 I/OB1, 12 INB2, 13 INB1, 14 OUTB2, 15 OUTB1, 16 VCCB

## MAX14850ASE+
designator *  value MAX14850ASE+  Reference: U
ki_keywords: 6 channel digital isolator bidirectional; ki_description: Six-channel digital isolator, bidirectional, 3V3, 5V, SOIC-16; ki_fp_filters: SOIC*3.9x9.9mm?P1.27mm*; Footprint: Package_SO:SOIC-16_3.9x9.9mm_P1.27mm; Datasheet: https://datasheets.maximintegrated.com/en/ds/MAX14850.pdf
pins: 1 VCCA, 2 INA1, 3 INA2, 4 OUTA1, 5 OUTA2, 6 I/OA1, 7 I/OA2, 8 GNDA, 9 GNDB, 10 I/OB2, 11 I/OB1, 12 INB2, 13 INB1, 14 OUTB2, 15 OUTB1, 16 VCCB

## MID400
designator *  value MID400  Reference: U
ki_keywords: AC line monitor; ki_description: AC Line Monitor Logic-Out Device, DIP-8; ki_fp_filters: DIP*W7.62mm*; Footprint: Package_DIP:DIP-8_W7.62mm; Datasheet: https://www.onsemi.com/pub/Collateral/MID400-D.pdf
pins: 1 VIN1, 2 NC hidden, 3 VIN2, 4 NC hidden, 5 GND, 6 VO, 7 AUX, 8 VCC

## NSL-32
designator *  value NSL-32  Reference: U
ki_keywords: optocoupler; ki_description: Optocoupler, LED Input, Photocell Output; ki_fp_filters: Luna*NSL?32*; Footprint: OptoDevice:Luna_NSL-32; Datasheet: http://lunainc.com/wp-content/uploads/2016/06/NSL-32.pdf
pins: 1 A, 2 K, 3 R, 4 R

## PC3H4
designator *  value PC3H4  Reference: U
ki_keywords: NPN AC DC Optocoupler; ki_description: AC/DC Optocoupler, Vce 70V, CTR 100-250%, SOP4; ki_fp_filters: SMDIP*W7.62mm*; Footprint: Package_DIP:SMDIP-4_W7.62mm; Datasheet: http://www.sharpsme.com/download/pc3h4-epdf
pins: 1, 2, 3, 4

## PC3H4A
designator *  value PC3H4A  Reference: U
ki_keywords: NPN AC DC Optocoupler; ki_description: AC/DC Optocoupler, Vce 70V, CTR 100-250%, SOP4; ki_fp_filters: SMDIP*W7.62mm*; Footprint: Package_DIP:SMDIP-4_W7.62mm; Datasheet: http://www.sharpsma.com/webfm_send/395
pins: 1, 2, 3, 4

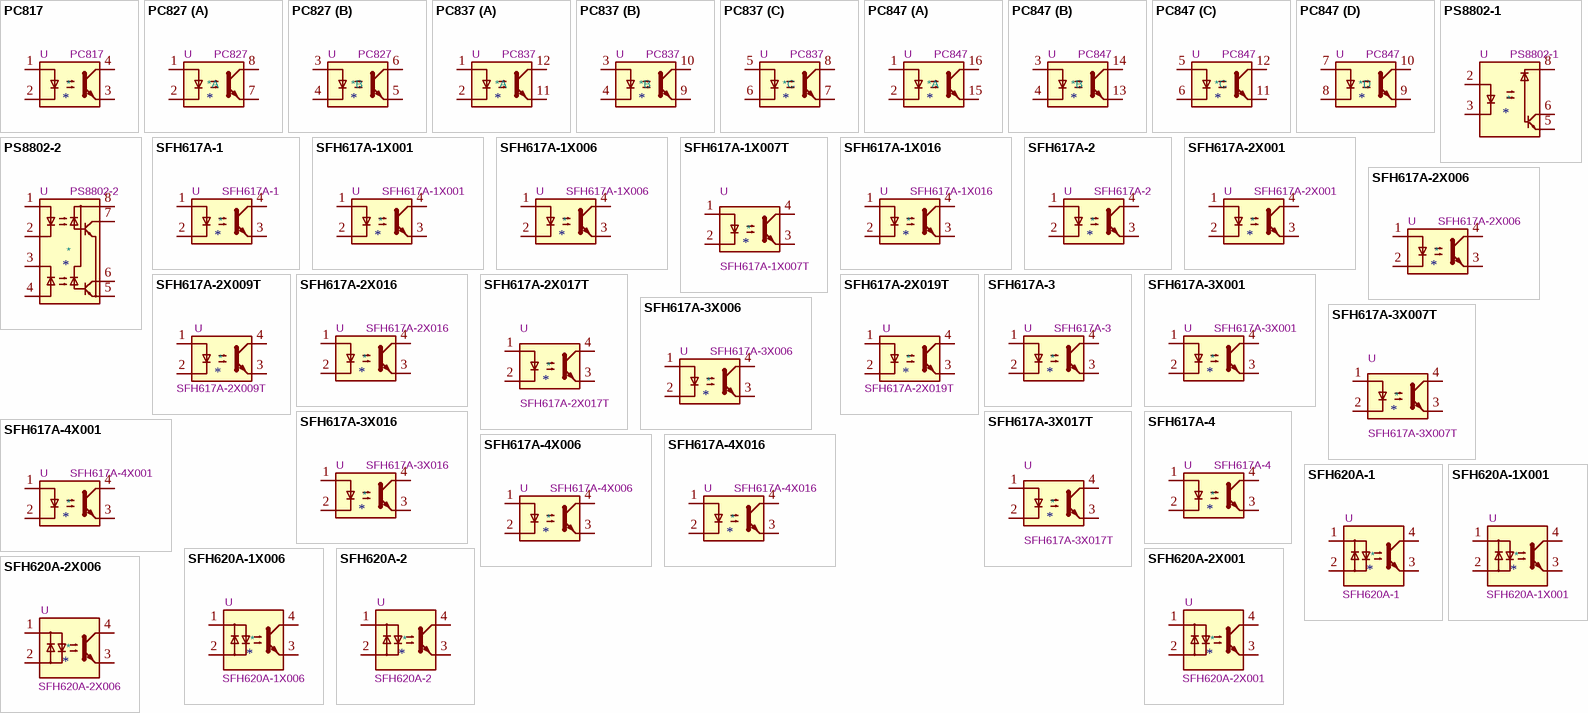
[diagram p5: symbols PC817 to SFH620A-2X006]

## PC817
designator *  value PC817  Reference: U
ki_keywords: NPN DC Optocoupler; ki_description: DC Optocoupler, Vce 35V, CTR 50-300%, DIP-4; ki_fp_filters: DIP*W7.62mm*; Footprint: Package_DIP:DIP-4_W7.62mm; Datasheet: http://www.soselectronic.cz/a_info/resource/d/pc817.pdf
pins: 1, 2, 3, 4

## PC827
designator *  value PC827  Reference: U
ki_keywords: NPN DC Dual Optocoupler; ki_description: Dual DC Optocoupler, Vce 35V, CTR 50%, DIP-8; ki_fp_filters: DIP*W7.62mm*; Footprint: Package_DIP:DIP-8_W7.62mm; Datasheet: http://optoelectronics.liteon.com/upload/download/DS-70-96-0016/LTV-8X7%20series.PDF
part A pins: 1, 2, 7, 8
part B pins: 3, 4, 5, 6

## PC837
designator *  value PC837  Reference: U
ki_keywords: NPN DC Triple Optocoupler; ki_description: DC Triple Optocoupler, Vce 35V, CTR 50-300%, DIP12; ki_fp_filters: DIP*W7.62mm*; Footprint: Package_DIP:DIP-12_W7.62mm; Datasheet: http://www.soselectronic.cz/a_info/resource/d/pc817.pdf
part A pins: 1, 2, 11, 12
part B pins: 3, 4, 9, 10
part C pins: 5, 6, 7, 8

## PC847
designator *  value PC847  Reference: U
ki_keywords: NPN DC Quad Optocoupler; ki_description: DC Quad Optocoupler, Vce 35V, CTR 50-300%, DIP16; ki_fp_filters: DIP*W7.62mm*; Footprint: Package_DIP:DIP-16_W7.62mm; Datasheet: http://www.soselectronic.cz/a_info/resource/d/pc817.pdf
part A pins: 1, 2, 15, 16
part B pins: 3, 4, 13, 14
part C pins: 5, 6, 11, 12
part D pins: 7, 8, 9, 10

## PS8802-1
designator *  value PS8802-1  Reference: U
ki_keywords: NPN DC Optocoupler Base Connected; ki_description: Single DC Optocoupler Base Connected, Vcc 35V, CTR 15%, Viso 2500V, SSOP-8; ki_fp_filters: SSOP*3.95x5.21x3.27mm?P1.27mm*; Footprint: Package_SO:SSOP-8_3.95x5.21x3.27mm_P1.27mm; Datasheet: http://www.cel.com/pdf/datasheets/ps8802.pdf
pins: 1 NC hidden, 2 A, 3 C, 4 NC hidden, 5 GND, 6 VO, 7 NC hidden, 8 VCC

## PS8802-2
designator *  value PS8802-2  Reference: U
ki_keywords: Dual NPN DC Optocoupler Base Connected; ki_description: Dual DC Optocoupler Base Connected, Vcc 35V, CTR 15%, Viso 2500V, SSOP-8; ki_fp_filters: SSOP*3.95x5.21x3.27mm?P1.27mm*; Footprint: Package_SO:SSOP-8_3.95x5.21x3.27mm_P1.27mm; Datasheet: http://www.cel.com/pdf/datasheets/ps8802.pdf
pins: 1 A1, 2 C1, 3 C2, 4 A2, 5 GND, 6 VO2, 7 VO1, 8 VCC

## SFH617A-1
designator *  value SFH617A-1  Reference: U
ki_keywords: Optocoupler, Phototransistor Output, 5300 VRMS, VCEO 70V, CTR% 40-80; ki_description: Optocoupler, Phototransistor Output, 5300 VRMS, VCEO 70V, CTR% 40-80, -55 to +110 degree Celsius, UL, BSI, FIMKO, cUL, THT PDIP-4; ki_fp_filters: DIP*W7.62mm*; Footprint: Package_DIP:DIP-4_W7.62mm; Datasheet: http://www.vishay.com/docs/83740/sfh617a.pdf
pins: 1, 2, 3, 4

## SFH617A-1X001
designator *  value SFH617A-1X001  Reference: U
ki_keywords: Optocoupler, Phototransistor Output, 5300 VRMS, VCEO 70V, CTR% 40-80; ki_description: Optocoupler, Phototransistor Output, 5300 VRMS, VCEO 70V, CTR% 40-80, -55 to +110 degree Celsius, VDE, UL, BSI, FIMKO, cUL, THT PDIP-4; ki_fp_filters: DIP*W7.62mm*; Footprint: Package_DIP:DIP-4_W7.62mm; Datasheet: http://www.vishay.com/docs/83740/sfh617a.pdf
pins: 1, 2, 3, 4

## SFH617A-1X006
designator *  value SFH617A-1X006  Reference: U
ki_keywords: Optocoupler, Phototransistor Output, 5300 VRMS, VCEO 70V, CTR% 40-80; ki_description: Optocoupler, Phototransistor Output, 5300 VRMS, VCEO 70V, CTR% 40-80, -55 to +110 degree Celsius, UL, BSI, FIMKO, cUL, wide THT PDIP-4; ki_fp_filters: DIP*W10.16mm*; Footprint: Package_DIP:DIP-4_W10.16mm; Datasheet: http://www.vishay.com/docs/83740/sfh617a.pdf
pins: 1, 2, 3, 4

## SFH617A-1X007T
designator *  value SFH617A-1X007T  Reference: U
ki_keywords: Optocoupler, Phototransistor Output, 5300 VRMS, VCEO 70V, CTR% 40-80; ki_description: Optocoupler, Phototransistor Output, 5300 VRMS, VCEO 70V, CTR% 40-80, -55 to +110 degree Celsius, UL, BSI, FIMKO, cUL, 8mm clearence SMD PDIP-4; ki_fp_filters: SMDIP*W9.53mm*Clearance8mm*; Footprint: Package_DIP:SMDIP-4_W9.53mm_Clearance8mm; Datasheet: http://www.vishay.com/docs/83740/sfh617a.pdf
pins: 1, 2, 3, 4

## SFH617A-1X016
designator *  value SFH617A-1X016  Reference: U
ki_keywords: Optocoupler, Phototransistor Output, 5300 VRMS, VCEO 70V, CTR% 40-80; ki_description: Optocoupler, Phototransistor Output, 5300 VRMS, VCEO 70V, CTR% 40-80, -55 to +110 degree Celsius, VDE, UL, BSI, FIMKO, cUL, wide THT PDIP-4; ki_fp_filters: DIP*W10.16mm*; Footprint: Package_DIP:DIP-4_W10.16mm; Datasheet: http://www.vishay.com/docs/83740/sfh617a.pdf
pins: 1, 2, 3, 4

## SFH617A-2
designator *  value SFH617A-2  Reference: U
ki_keywords: Optocoupler, Phototransistor Output, 5300 VRMS, VCEO 70V, CTR% 63-125; ki_description: Optocoupler, Phototransistor Output, 5300 VRMS, VCEO 70V, CTR% 63-125, -55 to +110 degree Celsius, UL, BSI, FIMKO, cUL, THT PDIP-4; ki_fp_filters: DIP*W7.62mm*; Footprint: Package_DIP:DIP-4_W7.62mm; Datasheet: http://www.vishay.com/docs/83740/sfh617a.pdf
pins: 1, 2, 3, 4

## SFH617A-2X001
designator *  value SFH617A-2X001  Reference: U
ki_keywords: Optocoupler, Phototransistor Output, 5300 VRMS, VCEO 70V, CTR% 63-125; ki_description: Optocoupler, Phototransistor Output, 5300 VRMS, VCEO 70V, CTR% 63-125, -55 to +110 degree Celsius, VDE, UL, BSI, FIMKO, THT PDIP-4; ki_fp_filters: DIP*W7.62mm*; Footprint: Package_DIP:DIP-4_W7.62mm; Datasheet: http://www.vishay.com/docs/83740/sfh617a.pdf
pins: 1, 2, 3, 4

## SFH617A-2X006
designator *  value SFH617A-2X006  Reference: U
ki_keywords: Optocoupler, Phototransistor Output, 5300 VRMS, VCEO 70V, CTR% 63-125; ki_description: Optocoupler, Phototransistor Output, 5300 VRMS, VCEO 70V, CTR% 63-125, -55 to +110 degree Celsius, UL, BSI, FIMKO, cUL, wide THT PDIP-4; ki_fp_filters: DIP*W10.16mm*; Footprint: Package_DIP:DIP-4_W10.16mm; Datasheet: http://www.vishay.com/docs/83740/sfh617a.pdf
pins: 1, 2, 3, 4

## SFH617A-2X009T
designator *  value SFH617A-2X009T  Reference: U
ki_keywords: Optocoupler, Phototransistor Output, 5300 VRMS, VCEO 70V, CTR% 63-125; ki_description: Optocoupler, Phototransistor Output, 5300 VRMS, VCEO 70V, CTR% 63-125, -55 to +110 degree Celsius, UL, BSI, FIMKO, SMD PDIP-4; ki_fp_filters: SMDIP*W7.62mm*; Footprint: Package_DIP:SMDIP-4_W7.62mm; Datasheet: http://www.vishay.com/docs/83740/sfh617a.pdf
pins: 1, 2, 3, 4

## SFH617A-2X016
designator *  value SFH617A-2X016  Reference: U
ki_keywords: Optocoupler, Phototransistor Output, 5300 VRMS, VCEO 70V, CTR% 63-125; ki_description: Optocoupler, Phototransistor Output, 5300 VRMS, VCEO 70V, CTR% 63-125, -55 to +110 degree Celsius, VDE, UL, BSI, FIMKO, wide THT PDIP-4; ki_fp_filters: DIP*W10.16mm*; Footprint: Package_DIP:DIP-4_W10.16mm; Datasheet: http://www.vishay.com/docs/83740/sfh617a.pdf
pins: 1, 2, 3, 4

## SFH617A-2X017T
designator *  value SFH617A-2X017T  Reference: U
ki_keywords: Optocoupler, Phototransistor Output, 5300 VRMS, VCEO 70V, CTR% 63-125; ki_description: Optocoupler, Phototransistor Output, 5300 VRMS, VCEO 70V, CTR% 63-125, -55 to +110 degree Celsius, VDE, UL, BSI, FIMKO, 8mm clearence SMD PDIP-4; ki_fp_filters: SMDIP*W9.53mm*Clearance8mm*; Footprint: Package_DIP:SMDIP-4_W9.53mm_Clearance8mm; Datasheet: http://www.vishay.com/docs/83740/sfh617a.pdf
pins: 1, 2, 3, 4

## SFH617A-2X019T
designator *  value SFH617A-2X019T  Reference: U
ki_keywords: Optocoupler, Phototransistor Output, 5300 VRMS, VCEO 70V, CTR% 63-125; ki_description: Optocoupler, Phototransistor Output, 5300 VRMS, VCEO 70V, CTR% 63-125, -55 to +110 degree Celsius, VDE, UL, BSI, FIMKO, SMD PDIP-4; ki_fp_filters: SMDIP*W7.62mm*; Footprint: Package_DIP:SMDIP-4_W7.62mm; Datasheet: http://www.vishay.com/docs/83740/sfh617a.pdf
pins: 1, 2, 3, 4

## SFH617A-3
designator *  value SFH617A-3  Reference: U
ki_keywords: Optocoupler, Phototransistor Output, 5300 VRMS, VCEO 70V, CTR% 100-200; ki_description: Optocoupler, Phototransistor Output, 5300 VRMS, VCEO 70V, CTR% 100-200, -55 to +110 degree Celsius, UL, BSI, FIMKO, THT PDIP-4; ki_fp_filters: DIP*W7.62mm*; Footprint: Package_DIP:DIP-4_W7.62mm; Datasheet: http://www.vishay.com/docs/83740/sfh617a.pdf
pins: 1, 2, 3, 4

## SFH617A-3X001
designator *  value SFH617A-3X001  Reference: U
ki_keywords: Optocoupler, Phototransistor Output, 5300 VRMS, VCEO 70V, CTR% 100-200; ki_description: Optocoupler, Phototransistor Output, 5300 VRMS, VCEO 70V, CTR% 100-200, -55 to +110 degree Celsius, VDE, UL, BSI, FIMKO, THT PDIP-4; ki_fp_filters: DIP*W7.62mm*; Footprint: Package_DIP:DIP-4_W7.62mm; Datasheet: http://www.vishay.com/docs/83740/sfh617a.pdf
pins: 1, 2, 3, 4

## SFH617A-3X006
designator *  value SFH617A-3X006  Reference: U
ki_keywords: Optocoupler, Phototransistor Output, 5300 VRMS, VCEO 70V, CTR% 100-200; ki_description: Optocoupler, Phototransistor Output, 5300 VRMS, VCEO 70V, CTR% 100-200, -55 to +110 degree Celsius, VDE, UL, BSI, FIMKO, wide THT PDIP-4; ki_fp_filters: DIP*W10.16mm*; Footprint: Package_DIP:DIP-4_W10.16mm; Datasheet: http://www.vishay.com/docs/83740/sfh617a.pdf
pins: 1, 2, 3, 4

## SFH617A-3X007T
designator *  value SFH617A-3X007T  Reference: U
ki_keywords: Optocoupler, Phototransistor Output, 5300 VRMS, VCEO 70V, CTR% 40-80; ki_description: Optocoupler, Phototransistor Output, 5300 VRMS, VCEO 70V, CTR% 40-80, -55 to +110 degree Celsius, UL, BSI, FIMKO, cUL, 8mm clearence SMD PDIP-4; ki_fp_filters: SMDIP*W9.53mm*Clearance8mm*; Footprint: Package_DIP:SMDIP-4_W9.53mm_Clearance8mm; Datasheet: http://www.vishay.com/docs/83740/sfh617a.pdf
pins: 1, 2, 3, 4

## SFH617A-3X016
designator *  value SFH617A-3X016  Reference: U
ki_keywords: Optocoupler, Phototransistor Output, 5300 VRMS, VCEO 70V, CTR% 100-200; ki_description: Optocoupler, Phototransistor Output, 5300 VRMS, VCEO 70V, CTR% 100-200, -55 to +110 degree Celsius, VDE, UL, BSI, FIMKO, wide THT PDIP-4; ki_fp_filters: DIP*W10.16mm*; Footprint: Package_DIP:DIP-4_W10.16mm; Datasheet: http://www.vishay.com/docs/83740/sfh617a.pdf
pins: 1, 2, 3, 4

## SFH617A-3X017T
designator *  value SFH617A-3X017T  Reference: U
ki_keywords: Optocoupler, Phototransistor Output, 5300 VRMS, VCEO 70V, CTR% 100-200; ki_description: Optocoupler, Phototransistor Output, 5300 VRMS, VCEO 70V, CTR% 100-200, -55 to +110 degree Celsius, VDE, UL, BSI, FIMKO, 8mm clearence SMD PDIP-4; ki_fp_filters: SMDIP*W9.53mm*Clearance8mm*; Footprint: Package_DIP:SMDIP-4_W9.53mm_Clearance8mm; Datasheet: http://www.vishay.com/docs/83740/sfh617a.pdf
pins: 1, 2, 3, 4

## SFH617A-4
designator *  value SFH617A-4  Reference: U
ki_keywords: Optocoupler, Phototransistor Output, 5300 VRMS, VCEO 70V, CTR% 160-320; ki_description: Optocoupler, Phototransistor Output, 5300 VRMS, VCEO 70V, CTR% 160-320, -55 to +110 degree Celsius, UL, BSI, FIMKO, cUL, THT PDIP-4; ki_fp_filters: DIP*W7.62mm*; Footprint: Package_DIP:DIP-4_W7.62mm; Datasheet: http://www.vishay.com/docs/83740/sfh617a.pdf
pins: 1, 2, 3, 4

## SFH617A-4X001
designator *  value SFH617A-4X001  Reference: U
ki_keywords: Optocoupler, Phototransistor Output, 5300 VRMS, VCEO 70V, CTR% 160-320; ki_description: Optocoupler, Phototransistor Output, 5300 VRMS, VCEO 70V, CTR% 160-320, -55 to +110 degree Celsius, VDE, UL, BSI, FIMKO, THT PDIP-4; ki_fp_filters: DIP*W7.62mm*; Footprint: Package_DIP:DIP-4_W7.62mm; Datasheet: http://www.vishay.com/docs/83740/sfh617a.pdf
pins: 1, 2, 3, 4

## SFH617A-4X006
designator *  value SFH617A-4X006  Reference: U
ki_keywords: Optocoupler, Phototransistor Output, 5300 VRMS, VCEO 70V, CTR% 160-320; ki_description: Optocoupler, Phototransistor Output, 5300 VRMS, VCEO 70V, CTR% 160-320, -55 to +110 degree Celsius, UL, BSI, FIMKO, cUL, wide THT PDIP-4; ki_fp_filters: DIP*W10.16mm*; Footprint: Package_DIP:DIP-4_W10.16mm; Datasheet: http://www.vishay.com/docs/83740/sfh617a.pdf
pins: 1, 2, 3, 4

## SFH617A-4X016
designator *  value SFH617A-4X016  Reference: U
ki_keywords: Optocoupler, Phototransistor Output, 5300 VRMS, VCEO 70V, CTR% 160-320; ki_description: Optocoupler, Phototransistor Output, 5300 VRMS, VCEO 70V, CTR% 160-320, -55 to +110 degree Celsius, VDE, UL, BSI, FIMKO, wide THT PDIP-4; ki_fp_filters: DIP*W10.16mm*; Footprint: Package_DIP:DIP-4_W10.16mm; Datasheet: http://www.vishay.com/docs/83740/sfh617a.pdf
pins: 1, 2, 3, 4

## SFH620A-1
designator *  value SFH620A-1  Reference: U
ki_keywords: Optocoupler, Phototransistor Output, 5300 VRMS, VCEO 70V, CTR% 40-125; ki_description: Optocoupler, Phototransistor Output, 5300 VRMS, VCEO 70V, CTR% 40-125, UL, cUL, BSI, THT PDIP-4; ki_fp_filters: DIP*W7.62mm*; Footprint: Package_DIP:DIP-4_W7.62mm; Datasheet: http://www.vishay.com/docs/83675/sfh620a.pdf
pins: 1, 2, 3, 4

## SFH620A-1X001
designator *  value SFH620A-1X001  Reference: U
ki_keywords: Optocoupler, Phototransistor Output, 5300 VRMS, VCEO 70V, CTR% 40-125; ki_description: Optocoupler, Phototransistor Output, 5300 VRMS, VCEO 70V, CTR% 40-125 VDE, UL, CUL, BSI, THT PDIP-4; ki_fp_filters: DIP*W7.62mm*; Footprint: Package_DIP:DIP-4_W7.62mm; Datasheet: http://www.vishay.com/docs/83675/sfh620a.pdf
pins: 1, 2, 3, 4

## SFH620A-1X006
designator *  value SFH620A-1X006  Reference: U
ki_keywords: Optocoupler, Phototransistor Output, 5300 VRMS, VCEO 70V, CTR% 40-125; ki_description: Optocoupler, Phototransistor Output, 5300 VRMS, VCEO 70V, CTR% 40-125, UL, cUL, BSI, THT PDIP-4; ki_fp_filters: DIP*W10.16mm*; Footprint: Package_DIP:DIP-4_W10.16mm; Datasheet: http://www.vishay.com/docs/83675/sfh620a.pdf
pins: 1, 2, 3, 4

## SFH620A-2
designator *  value SFH620A-2  Reference: U
ki_keywords: Optocoupler, Phototransistor Output, 5300 VRMS, VCEO 70V, CTR% 63-200; ki_description: Optocoupler, Phototransistor Output, 5300 VRMS, VCEO 70V, CTR% 63-200 UL, cUL, BSI, THT PDIP-4; ki_fp_filters: DIP*W7.62mm*; Footprint: Package_DIP:DIP-4_W7.62mm; Datasheet: http://www.vishay.com/docs/83675/sfh620a.pdf
pins: 1, 2, 3, 4

## SFH620A-2X001
designator *  value SFH620A-2X001  Reference: U
ki_keywords: Optocoupler, Phototransistor Output, 5300 VRMS, VCEO 70V, CTR% 63-200; ki_description: Optocoupler, Phototransistor Output, 5300 VRMS, VCEO 70V, CTR% 63-200 VDE, UL, CUL, BSI, THT PDIP-4; ki_fp_filters: DIP*W7.62mm*; Footprint: Package_DIP:DIP-4_W7.62mm; Datasheet: http://www.vishay.com/docs/83675/sfh620a.pdf
pins: 1, 2, 3, 4

## SFH620A-2X006
designator *  value SFH620A-2X006  Reference: U
ki_keywords: Optocoupler, Phototransistor Output, 5300 VRMS, VCEO 70V, CTR% 63-200; ki_description: Optocoupler, Phototransistor Output, 5300 VRMS, VCEO 70V, CTR% 63-200 UL, cUL, BSI, THT PDIP-4; ki_fp_filters: DIP*W10.16mm*; Footprint: Package_DIP:DIP-4_W10.16mm; Datasheet: http://www.vishay.com/docs/83675/sfh620a.pdf
pins: 1, 2, 3, 4

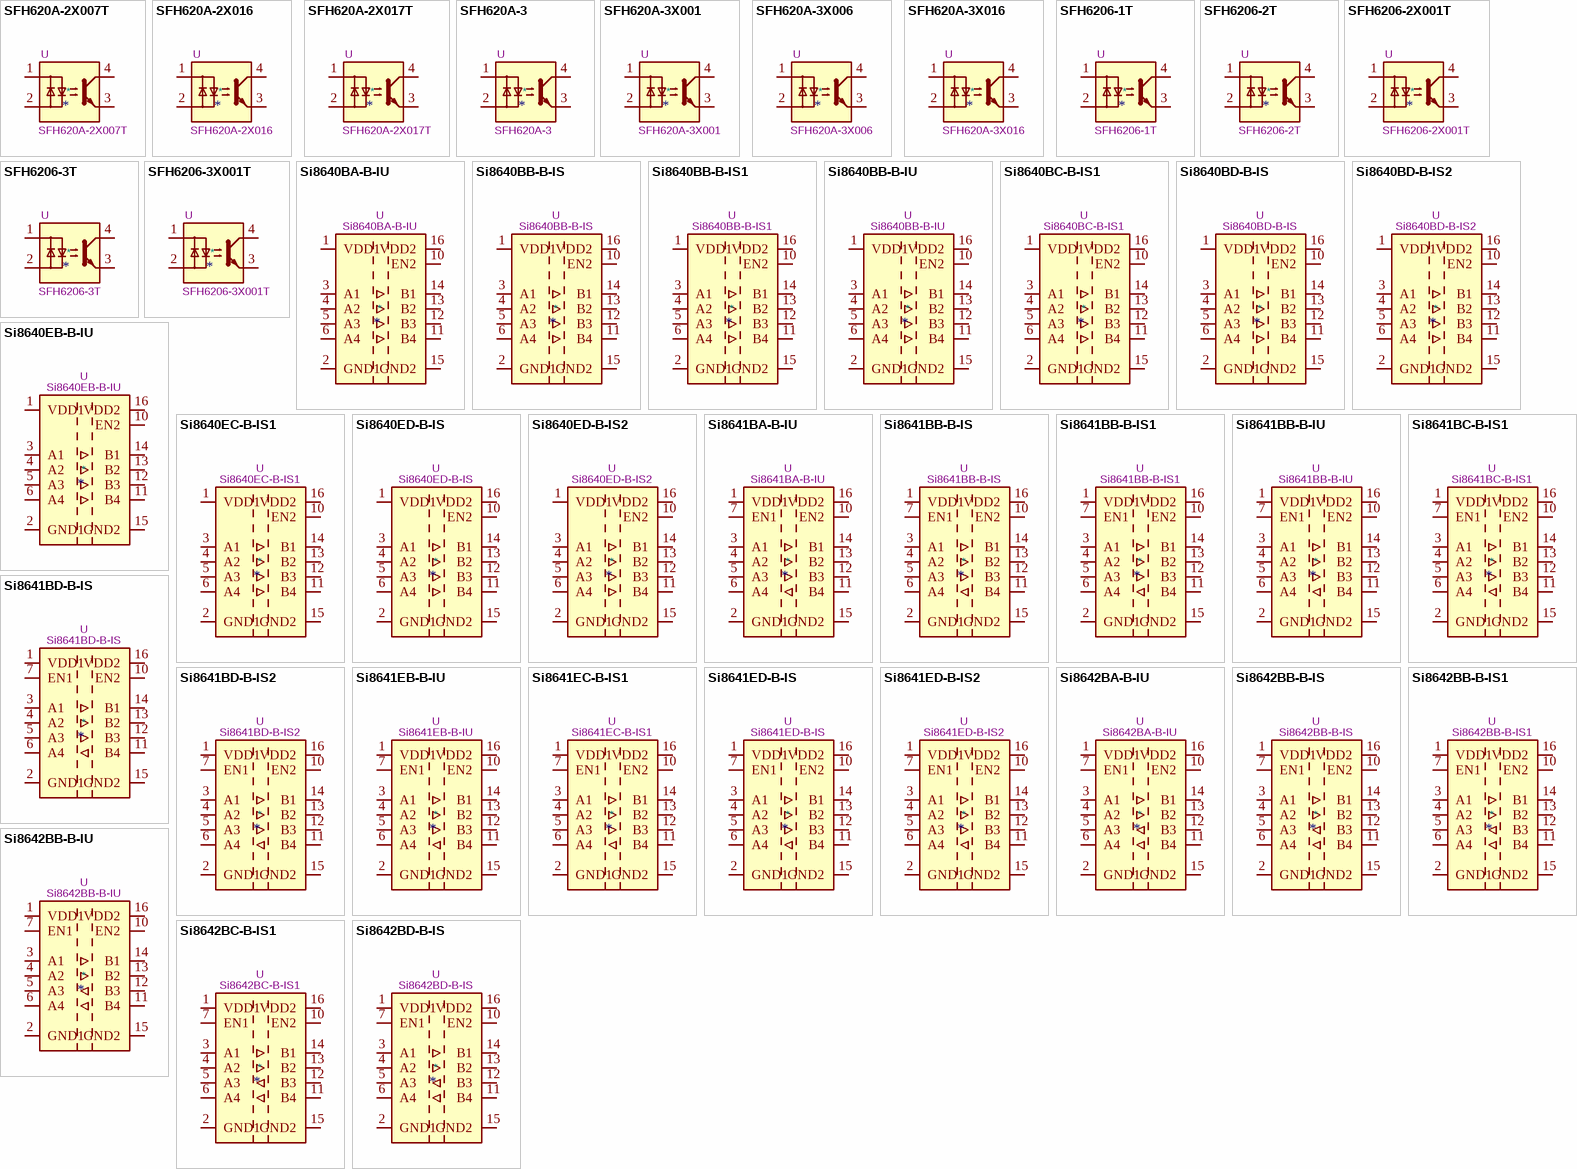
[diagram p6: symbols SFH620A-2X007T to Si8642BD-B-IS]

## SFH620A-2X007T
designator *  value SFH620A-2X007T  Reference: U
ki_keywords: Optocoupler, Phototransistor Output, 5300 VRMS, VCEO 70V, CTR% 63-200; ki_description: Optocoupler, Phototransistor Output, 5300 VRMS, VCEO 70V, CTR% 63-200 UL, cUL, BSI, SMD-4; ki_fp_filters: SMDIP*W9.53mm?Clearance8mm*; Footprint: Package_DIP:SMDIP-4_W9.53mm_Clearance8mm; Datasheet: http://www.vishay.com/docs/83675/sfh620a.pdf
pins: 1, 2, 3, 4

## SFH620A-2X016
designator *  value SFH620A-2X016  Reference: U
ki_keywords: Optocoupler, Phototransistor Output, 5300 VRMS, VCEO 70V, CTR% 63-200; ki_description: Optocoupler, Phototransistor Output, 5300 VRMS, VCEO 70V, CTR% 63-200 VDE, UL, CUL, BSI, SMD-4; ki_fp_filters: DIP*W10.16mm*; Footprint: Package_DIP:DIP-4_W10.16mm; Datasheet: http://www.vishay.com/docs/83675/sfh620a.pdf
pins: 1, 2, 3, 4

## SFH620A-2X017T
designator *  value SFH620A-2X017T  Reference: U
ki_keywords: Optocoupler, Phototransistor Output, 5300 VRMS, VCEO 70V, CTR% 63-200; ki_description: Optocoupler, Phototransistor Output, 5300 VRMS, VCEO 70V, CTR% 63-200 VDE, UL, CUL, BSI, SMD-4; ki_fp_filters: SMDIP*W9.53mm?Clearance8mm*; Footprint: Package_DIP:SMDIP-4_W9.53mm_Clearance8mm; Datasheet: http://www.vishay.com/docs/83675/sfh620a.pdf
pins: 1, 2, 3, 4

## SFH620A-3
designator *  value SFH620A-3  Reference: U
ki_keywords: Optocoupler, Phototransistor Output, 5300 VRMS, VCEO 70V, CTR% 100-320; ki_description: Optocoupler, Phototransistor Output, 5300 VRMS, VCEO 70V, CTR% 100-320 UL, cUL, BSI, THT PDIP-4; ki_fp_filters: DIP*W7.62mm*; Footprint: Package_DIP:DIP-4_W7.62mm; Datasheet: http://www.vishay.com/docs/83675/sfh620a.pdf
pins: 1, 2, 3, 4

## SFH620A-3X001
designator *  value SFH620A-3X001  Reference: U
ki_keywords: Optocoupler, Phototransistor Output, 5300 VRMS, VCEO 70V, CTR% 100-320; ki_description: Optocoupler, Phototransistor Output, 5300 VRMS, VCEO 70V, CTR% 100-320 VDE, UL, CUL, BSI, THT PDIP-4; ki_fp_filters: DIP*W7.62mm*; Footprint: Package_DIP:DIP-4_W7.62mm; Datasheet: http://www.vishay.com/docs/83675/sfh620a.pdf
pins: 1, 2, 3, 4

## SFH620A-3X006
designator *  value SFH620A-3X006  Reference: U
ki_keywords: Optocoupler, Phototransistor Output, 5300 VRMS, VCEO 70V, CTR% 100-320; ki_description: Optocoupler, Phototransistor Output, 5300 VRMS, VCEO 70V, CTR% 100-320 UL, cUL, BSI, THT PDIP-4; ki_fp_filters: DIP*W10.16mm*; Footprint: Package_DIP:DIP-4_W10.16mm; Datasheet: http://www.vishay.com/docs/83675/sfh620a.pdf
pins: 1, 2, 3, 4

## SFH620A-3X016
designator *  value SFH620A-3X016  Reference: U
ki_keywords: Optocoupler, Phototransistor Output, 5300 VRMS, VCEO 70V, CTR% 100-320; ki_description: Optocoupler, Phototransistor Output, 5300 VRMS, VCEO 70V, CTR% 100-320 VDE, UL, CUL, BSI, SMD-4; ki_fp_filters: DIP*W10.16mm*; Footprint: Package_DIP:DIP-4_W10.16mm; Datasheet: http://www.vishay.com/docs/83675/sfh620a.pdf
pins: 1, 2, 3, 4

## SFH6206-1T
designator *  value SFH6206-1T  Reference: U
ki_keywords: Optocoupler, Phototransistor Output, 5300 VRMS, VCEO 70V, CTR% 40-125; ki_description: Optocoupler, Phototransistor Output, 5300 VRMS, VCEO 70V, CTR% 40-125, UL, cUL, BSI, SMD-4; ki_fp_filters: SMDIP*W9.53mm?Clearance8mm*; Footprint: Package_DIP:SMDIP-4_W9.53mm_Clearance8mm; Datasheet: http://www.vishay.com/docs/83675/sfh620a.pdf
pins: 1, 2, 3, 4

## SFH6206-2T
designator *  value SFH6206-2T  Reference: U
ki_keywords: Optocoupler, Phototransistor Output, 5300 VRMS, VCEO 70V, CTR% 63-200; ki_description: Optocoupler, Phototransistor Output, 5300 VRMS, VCEO 70V, CTR% 63-200, UL, cUL, BSI, SMD-4; ki_fp_filters: SMDIP*W9.53mm?Clearance8mm*; Footprint: Package_DIP:SMDIP-4_W9.53mm_Clearance8mm; Datasheet: http://www.vishay.com/docs/83675/sfh620a.pdf
pins: 1, 2, 3, 4

## SFH6206-2X001T
designator *  value SFH6206-2X001T  Reference: U
ki_keywords: Optocoupler, Phototransistor Output, 5300 VRMS, VCEO 70V, CTR% 63-200; ki_description: Optocoupler, Phototransistor Output, 5300 VRMS, VCEO 70V, CTR% 63-200, VDE, UL, CUL, BSI, SMD-4; ki_fp_filters: SMDIP*W9.53mm?Clearance8mm*; Footprint: Package_DIP:SMDIP-4_W9.53mm_Clearance8mm; Datasheet: http://www.vishay.com/docs/83675/sfh620a.pdf
pins: 1, 2, 3, 4

## SFH6206-3T
designator *  value SFH6206-3T  Reference: U
ki_keywords: Optocoupler, Phototransistor Output, 5300 VRMS, VCEO 70V, CTR% 100-320; ki_description: Optocoupler, Phototransistor Output, 5300 VRMS, VCEO 70V, CTR% 100-320, UL, cUL, BSI, SMD-4; ki_fp_filters: SMDIP*W9.53mm?Clearance8mm*; Footprint: Package_DIP:SMDIP-4_W9.53mm_Clearance8mm; Datasheet: http://www.vishay.com/docs/83675/sfh620a.pdf
pins: 1, 2, 3, 4

## SFH6206-3X001T
designator *  value SFH6206-3X001T  Reference: U
ki_keywords: Optocoupler, Phototransistor Output, 5300 VRMS, VCEO 70V, CTR% 100-320; ki_description: Optocoupler, Phototransistor Output, 5300 VRMS, VCEO 70V, CTR% 100-320, VDE, UL, CUL, BSI, SMD-4; ki_fp_filters: SMDIP*W9.53mm?Clearance8mm*; Footprint: Package_DIP:SMDIP-4_W9.53mm_Clearance8mm; Datasheet: http://www.vishay.com/docs/83675/sfh620a.pdf
pins: 1, 2, 3, 4

## Si8640BA-B-IU
designator *  value Si8640BA-B-IU  Reference: U
ki_keywords: 4Ch 4In Quad Digital Isolator 150Mbps; ki_description: Low-Power Quad-Channel Digital Isolator, 150Mbps, 2.5-5.5V, 1.0kV isolation, Fail-Safe Low, QSOP-16; ki_fp_filters: QSOP*3.9x4.9mm*P0.635mm*; Footprint: Package_SO:QSOP-16_3.9x4.9mm_P0.635mm; Datasheet: https://www.silabs.com/documents/public/data-sheets/si864x-datasheet.pdf
pins: 1 VDD1, 2 GND1, 3 A1, 4 A2, 5 A3, 6 A4, 7 NC hidden, 8 GND1 hidden, 9 GND2 hidden, 10 EN2, 11 B4, 12 B3, 13 B2, 14 B1, 15 GND2, 16 VDD2

## Si8640BB-B-IS
designator *  value Si8640BB-B-IS  Reference: U
ki_keywords: 4Ch 4In Quad Digital Isolator 150Mbps; ki_description: Low-Power Quad-Channel Digital Isolator, 150Mbps, 2.5-5.5V, 2.5kV isolation, Fail-Safe Low, SOIC-16W; ki_fp_filters: SOIC*7.5x10.3mm*P1.27mm*; Footprint: Package_SO:SOIC-16W_7.5x10.3mm_P1.27mm; Datasheet: https://www.silabs.com/documents/public/data-sheets/si864x-datasheet.pdf
pins: 1 VDD1, 2 GND1, 3 A1, 4 A2, 5 A3, 6 A4, 7 NC hidden, 8 GND1 hidden, 9 GND2 hidden, 10 EN2, 11 B4, 12 B3, 13 B2, 14 B1, 15 GND2, 16 VDD2

## Si8640BB-B-IS1
designator *  value Si8640BB-B-IS1  Reference: U
ki_keywords: 4Ch 4In Quad Digital Isolator 150Mbps; ki_description: Low-Power Quad-Channel Digital Isolator, 150Mbps, 2.5-5.5V, 2.5kV isolation, Fail-Safe Low, SOIC-16; ki_fp_filters: SOIC*3.9x9.9mm*P1.27mm*; Footprint: Package_SO:SOIC-16_3.9x9.9mm_P1.27mm; Datasheet: https://www.silabs.com/documents/public/data-sheets/si864x-datasheet.pdf
pins: 1 VDD1, 2 GND1, 3 A1, 4 A2, 5 A3, 6 A4, 7 NC hidden, 8 GND1 hidden, 9 GND2 hidden, 10 EN2, 11 B4, 12 B3, 13 B2, 14 B1, 15 GND2, 16 VDD2